# EAGLE library part G125-MH104M4-04AD000P (library G125-MH104M4-04AD000P)
Gecko-MT: 4+4 Pos Plug Right-Angle THT Connector Screw-Lok Board Mount Source: Datasheet <https://content.harwin.com/m/91a65d72bc24bdea/original/DRG-03150-Technical-Drawing-Datasheet-G125-MH1XXM4-XXAD000P-pdf.pdf>
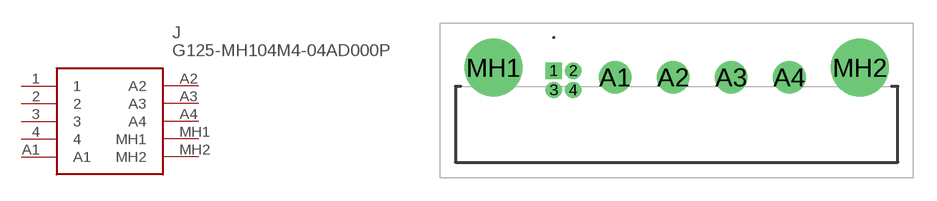
[diagram p0: symbol with the pads of G125MH104M404AD000P; footprint G125MH104M404AD000P]

Designator prefix J

## G125-MH104M4-04AD000P (Description: Gecko-MT: 4+4 Pos Plug Right-Angle THT Connector Screw-Lok Board Mount; Height: 5.25mm; Manufacturer_Name: Harwin; Manufacturer_Part_Number: G125-MH104M4-04AD000P; Mouser_Part_Number: 855-G125MH14M44AD00P; Mouser_Price-Stock: https://www.mouser.co.uk/ProductDetail/Harwin/G125-MH104M4-04AD000P?qs=Y0Uzf4wQF3nR%252B22z%252BtmrYQ%3D%3D)  [G125MH104M404AD000P]
1  1
2  2
3  3
4  4
A1  A1
A2  A2
A3  A3
A4  A4
MH1  MH1
MH2  MH2

## Footprint G125MH104M404AD000P (pad centres in mm)
G125-MH104M4-04AD000P-1
drill 0.55 pad 1.05 square: 1 0,0
drill 0.55 pad 1.05: 2 1.25,0; 3 0,-1.25; 4 1.25,-1.25
drill 1.4 pad 2.1: A1 3.95,-0.42; A2 7.7,-0.42; A3 11.45,-0.42; A4 15.2,-0.42
drill 2.5 pad 3.75: MH1 -3.9,0.2; MH2 19.75,0.2